# EAGLE library part AVR-ATTINY13 (library tidyeagle)
Atmel 8-bit Microcontroller in DIP8 and SO8 packages. Datasheet: Summary <http://www.atmel.com/dyn/resources/prod_documents/2535S.pdf>, Full <http://www.atmel.com/dyn/resources/prod_documents/doc2535.pdf> Application Notes: AVR042 - Hardware Design Considerations <http://atmel.com/dyn/resources/prod_documents/doc2521.pdf>
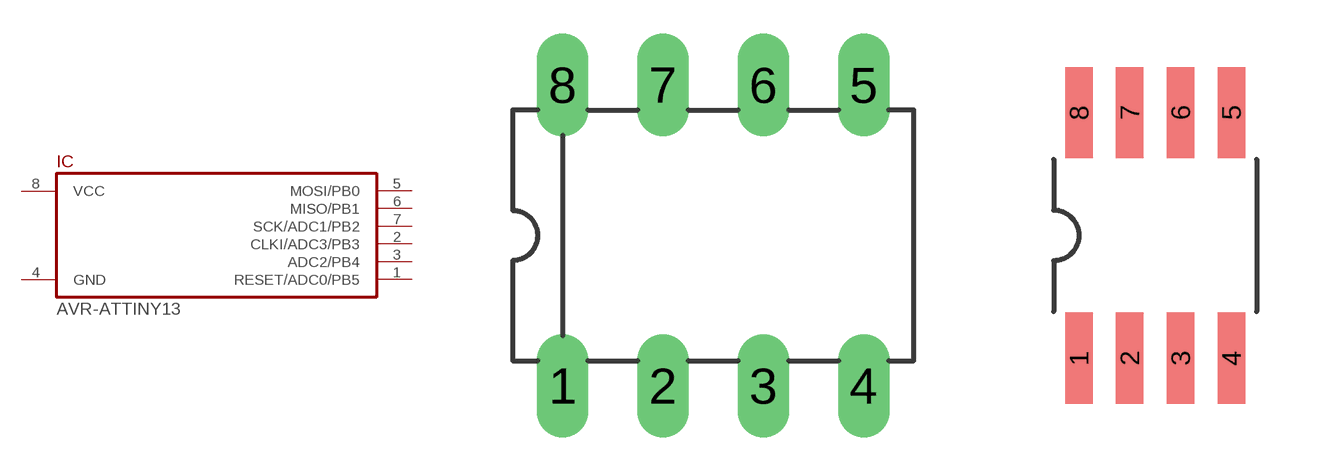
[diagram p9: symbol with the pads of DIL08-3; footprints DIL08-3, SO8]

Designator prefix IC

## AVR-ATTINY13-DIP8  [DIL08-3]
1  RESET/ADC0/PB5
2  CLKI/ADC3/PB3
3  ADC2/PB4
4  GND  pwr
5  MOSI/PB0
6  MISO/PB1
7  SCK/ADC1/PB2
8  VCC  pwr

## AVR-ATTINY13-SO8  [SO8]
Pads as for DIL08-3

## Footprint DIL08-3 (pad centres in mm)
drill 0.8 long: 1 -3.81,-3.81; 2 -1.27,-3.81; 3 1.27,-3.81; 4 3.81,-3.81; 5 3.81,3.81; 6 1.27,3.81; 7 -1.27,3.81; 8 -3.81,3.81

## Footprint SO8 (pad centres in mm)
Not Tested.
smd 0.686 x 2.286: 1 -1.778,-3.073; 2 -0.508,-3.073; 3 0.762,-3.073; 4 2.032,-3.073; 5 2.032,3.073; 6 0.762,3.073; 7 -0.508,3.073; 8 -1.778,3.073